# Altium footprint library DIOD - SMA.PcbLib: 1 footprints
Each footprint in its own frame and in the unit in brackets; x right, y up, seen from the top. Pads: shape width x height; smd on the part's side, far side on the other; paste and mask are expansions set on the pad; w line width, h text height; cw(c..) or ccw(c..) is an arc to the next point about the centre after c.
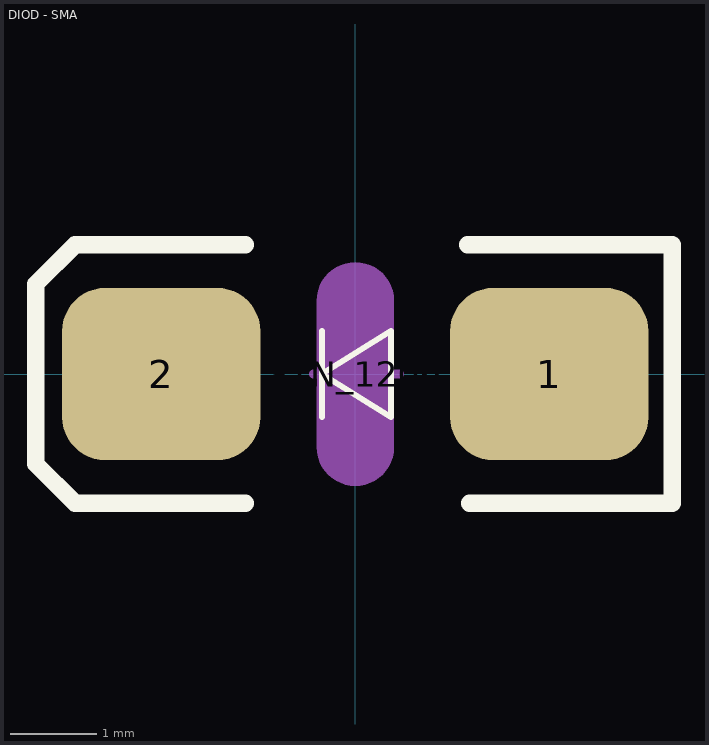
[diagram p0: the footprint, top view; thin cyan lines are the x and y axes]

## DIOD - SMA [mm]
pads (3):
  rrect50% 2.3x2 smd: 1(2.25,0) 2(-2.25,0)
  oval 0.9x2.6 on Mech2 mask+0: STN_1206(0,0)
Top Overlay:
  lines w0.07: -0.387,-0.5 -0.387,0.5 ; -0.387,0 0.413,-0.5 0.413,0.5 -0.387,0
  lines w0.2: -1.275,-1.5 -3.25,-1.5 -3.706,-1.044 -3.706,1.044 -3.25,1.5 -1.275,1.501 ; 1.3,1.5 3.675,1.5 3.675,-1.5 1.325,-1.5
Mechanical 15:
  lines w0.1: -0.487,0 0.513,0 ; 0.013,-0.5 0.013,0.5
3D body "User Library-DO-214AC_SMA.STEP": height 2.2, standoff 0, extent -2.5,-1.35 2.5,1.35